# EAGLE library part 7SEG(2.4MM_X_3.4MM) (library Components Library)
LED 7-SEG 1.0 SNGL RED CA DIRECT
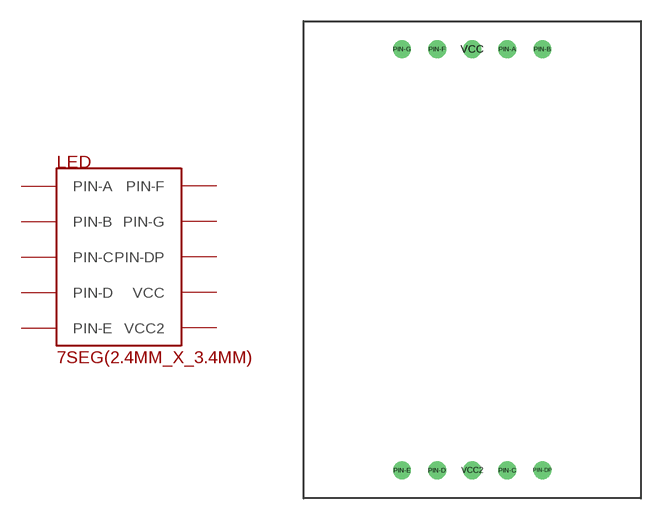
[diagram p8: symbol with the pads of 7SEG(2.4MM_X_3.4MM); footprint 7SEG(2.4MM_X_3.4MM)]

Designator prefix LED

## 7SEG(2.4MM_X_3.4MM)  [7SEG(2.4MM_X_3.4MM)]
PIN-A  PIN-A
PIN-B  PIN-B
PIN-C  PIN-C
PIN-D  PIN-D
PIN-DP  PIN-DP
PIN-E  PIN-E
PIN-F  PIN-F
PIN-G  PIN-G
VCC  VCC
VCC2  VCC2

## Footprint 7SEG(2.4MM_X_3.4MM) (pad centres in mm)
drill 0.5 pad 1.27: PIN-A 2.435,14.855; PIN-B 4.935,14.855; PIN-C 2.435,-15.145; PIN-D -2.565,-15.145; PIN-DP 4.935,-15.145; PIN-E -5.065,-15.145; PIN-F -2.565,14.855; PIN-G -5.065,14.855; VCC -0.065,14.855; VCC2 -0.065,-15.145